# Altium schematic symbol library TNPW080510K0FEEA.SchLib: 1 symbol
Pins are listed as number, name and electrical type; pins without a type are passive.

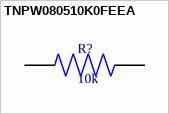
[diagram p0: symbol TNPW080510K0FEEA]

## TNPW080510K0FEEA
designator R?, comment 10k
MP: TNPW080510K0FEEA; Package: None; Price: None; Value: *; Availability: Unavailable
footprint RESC2012X55N
pins: 1, 2